# EAGLE library part 84-CBS1.25X2.5X0.8 (library NewSDR)
Leader Tech 1.5" x 2.5" x 0.8" Shield
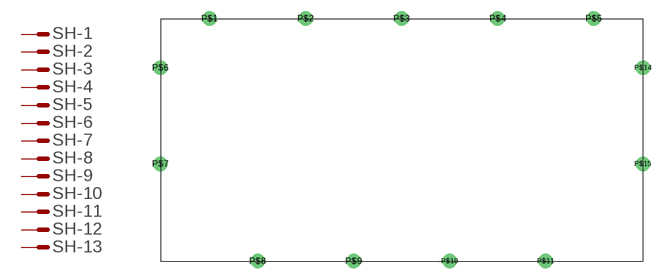
[diagram p206: symbol with the pads of 84-CBS1.25X2.5X0.8; footprint 84-CBS1.25X2.5X0.8]

Designator prefix SH-; gates 1=M 2=M 3=M 4=M 5=M 6=M 7=M 8=M 9=M 10=M 11=M 12=M 13=M

## 84-CBS1.25X2.5X0.8  [84-CBS1.25X2.5X0.8]
P$1  1:M  pas
P$2  2:M  pas
P$3  3:M  pas
P$4  4:M  pas
P$5  5:M  pas
P$6  6:M  pas
P$7  7:M  pas
P$8  8:M  pas
P$9  9:M  pas
P$10  10:M  pas
P$11  11:M  pas
P$14  12:M  pas
P$15  13:M  pas

## Footprint 84-CBS1.25X2.5X0.8 (pad centres in mm)
Leader Tech 1.5" x 2.5" x 0.8" Shield
drill 1.27: P$1 6.502,0; P$2 19.202,0; P$3 31.902,0; P$4 44.602,0; P$5 57.302,0; P$6 0,-6.502; P$7 0,-19.202; P$8 12.852,-32.055; P$9 25.552,-32.055; P$10 38.252,-32.055; P$11 50.952,-32.055; P$14 63.805,-6.502; P$15 63.805,-19.202